# EAGLE library part MAX6070AAUT18+T (library MAX6070AAUT18+T)
V-Ref Precision 1.8V 10mA 6-Pin SOT-23 T/R Source: Datasheet <https://datasheets.maximintegrated.com/en/ds/MAX6070-MAX6071.pdf>
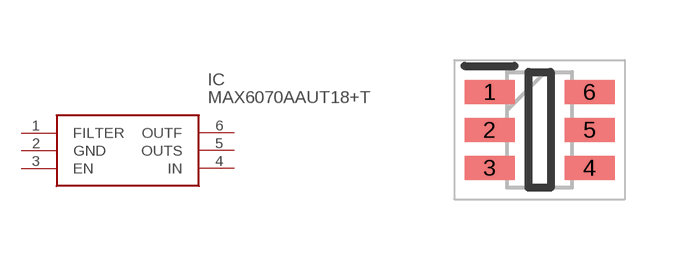
[diagram p0: symbol with the pads of SOT95P280X145-6N; footprint SOT95P280X145-6N]

Designator prefix IC

## MAX6070AAUT18+T (Arrow_Part_Number: MAX6070AAUT18+T; Arrow_Price-Stock: https://www.arrow.com/en/products/max6070aaut18t/maxim-integrated?region=nac; Description: V-Ref Precision 1.8V 10mA 6-Pin SOT-23 T/R; Height: 1.45mm; Manufacturer_Name: Analog Devices; Manufacturer_Part_Number: MAX6070AAUT18+T; Mouser_Part_Number: 700-MAX6070AAUT18T; Mouser_Price-Stock: https://www.mouser.co.uk/ProductDetail/Maxim-Integrated/MAX6070AAUT18%2bT?qs=fEkotVtiOiQPKIf6MZqOIA%3D%3D)  [SOT95P280X145-6N]
1  FILTER
2  GND
3  EN
4  IN
5  OUTS
6  OUTF

## Footprint SOT95P280X145-6N (pad centres in mm)
u6+5a
smd 1.25 x 0.6: 1 -1.25,0.95; 2 -1.25,0; 3 -1.25,-0.95; 4 1.25,-0.95; 5 1.25,0; 6 1.25,0.95